# Altium schematic symbol library GRM155R70J473KA01D.SchLib: 1 symbol
Pins are listed as number, name and electrical type; pins without a type are passive.

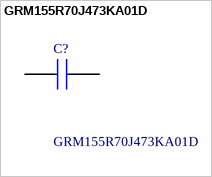
[diagram p0: symbol GRM155R70J473KA01D]

## GRM155R70J473KA01D
designator C?
Multilayer Ceramic Capacitors MLCC - SMD/SMT 0.047uF 6.3VDC 10%; Manufacturer_Name: Murata Electronics; Geometry.Height: 0.55mm; Manufacturer_Part_Number: GRM155R70J473KA01D; Mouser Part Number: 81-GRM155R70J473KA1D; Mouser Price/Stock: https://www.mouser.co.uk/ProductDetail/Murata-Electronics/GRM155R70J473KA01D?qs=y02iAgv9n63DJ80zfdDo8g%3D%3D; Arrow Part Number: GRM155R70J473KA01D; Arrow Price/Stock: https://www.arrow.com/en/products/grm155r70j473ka01d/murata-manufacturing?region=nac; Datasheet Link: http://www.murata.com/~/media/webrenewal/support/library/catalog/products/capacitor/mlcc/c02e.pdf
footprint CAPC1005X55N
pins: 1, 2